# Altium schematic symbol library UCC27211.SchLib: 1 symbol
Pins are listed as number, name and electrical type; pins without a type are passive.

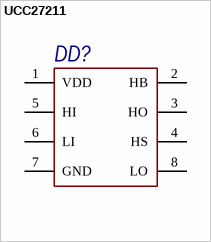
[diagram p0: symbol UCC27211]

## UCC27211
designator DD?
Part Number: IRS21867
footprint SOIC-8
pins: 1 VDD, 2 HB, 3 HO, 4 HS, 5 HI, 6 LI, 7 GND, 8 LO